# Altium footprint library ADV7180.PcbLib: 2 footprints
Each footprint in its own frame and in the unit in brackets; x right, y up, seen from the top. Pads: shape width x height; smd on the part's side, far side on the other; paste and mask are expansions set on the pad; w line width, h text height; cw(c..) or ccw(c..) is an arc to the next point about the centre after c.
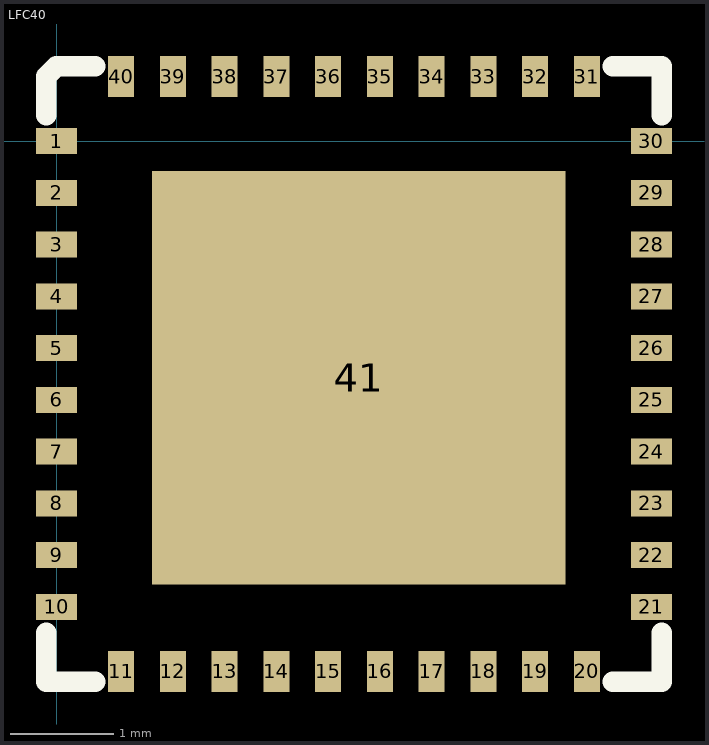
[diagram p0: the footprints below, top view; thin cyan lines are the x and y axes]

## LFC40 [mm]
pads (41):
  rect 0.4x0.25 smd: 1(0,0) 2(0,-0.5) 3(0,-1) 4(0,-1.5) 5(0,-2) 6(0,-2.5) 7(0,-3) 8(0,-3.5) 9(0,-4) 10(0,-4.5) 21(5.75,-4.5) 22(5.75,-4) 23(5.75,-3.5) 24(5.75,-3) 25(5.75,-2.5) 26(5.75,-2) 27(5.75,-1.5) 28(5.75,-1) 29(5.75,-0.5) 30(5.75,0)
  rect 0.25x0.4 smd: 11(0.625,-5.125) 12(1.125,-5.125) 13(1.625,-5.125) 14(2.125,-5.125) 15(2.625,-5.125) 16(3.125,-5.125) 17(3.625,-5.125) 18(4.125,-5.125) 19(4.625,-5.125) 20(5.125,-5.125) 31(5.125,0.625) 32(4.625,0.625) 33(4.125,0.625) 34(3.625,0.625) 35(3.125,0.625) 36(2.625,0.625) 37(2.125,0.625) 38(1.625,0.625) 39(1.125,0.625) 40(0.625,0.625)
  rect 4x4 smd: 41(2.921,-2.286)
Top Overlay:
  lines w0.2: -0.1,-4.75 -0.1,-5.225 0.375,-5.225 ; -0.1,0.25 -0.1,0.625 0,0.725 0.375,0.725 ; 5.375,-5.225 5.85,-5.225 5.85,-4.75 ; 5.375,0.725 5.85,0.725 5.85,0.25

## PCBComponent_1 [mm]